# Altium footprint library TP4056Module.PcbLib: 1 footprints
Each footprint in its own frame and in the unit in brackets; x right, y up, seen from the top. Pads: shape width x height; smd on the part's side, far side on the other; paste and mask are expansions set on the pad; w line width, h text height; cw(c..) or ccw(c..) is an arc to the next point about the centre after c.
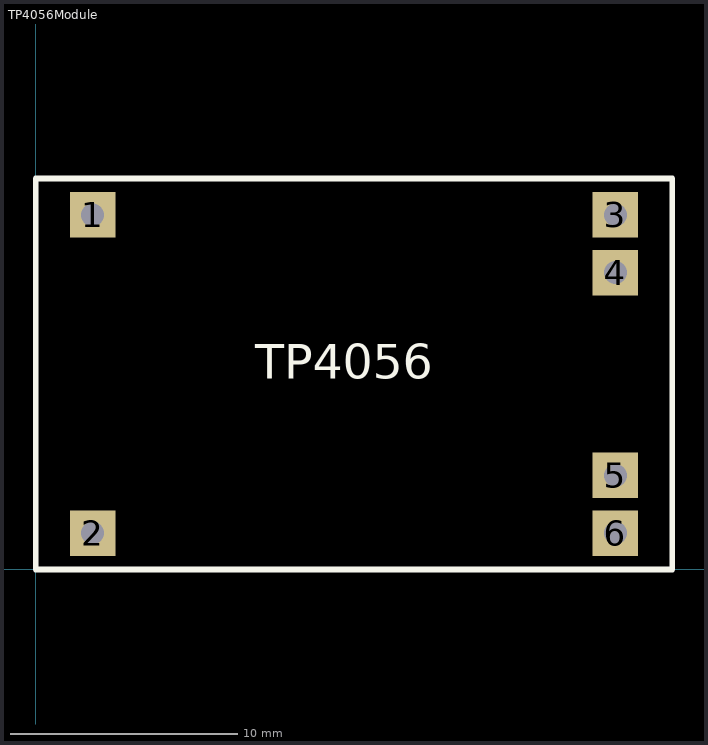
[diagram p0: the footprint, top view; thin cyan lines are the x and y axes]

## TP4056Module [mm]
pads (6):
  rect 2x2 hole 1.016: 1(2.5,15.6) 2(2.5,1.6) 3(25.5,15.6) 4(25.5,13.06) 5(25.5,4.14) 6(25.5,1.6)
Top Overlay:
  lines w0.254: 0,0 28,0 28,17.2 0,17.2 0,0
  text "TP4056" at 9.652,8.382 h1.52
3D body "TP4056_Charging_Module_Type_C.step": height 4.14, standoff 0, extent -0.545,-0.064 28.755,17.336